# Altium schematic symbol library PROBOT_Schema_Library.SchLib: 13 symbols
Pins are listed as number, name and electrical type; pins without a type are passive.

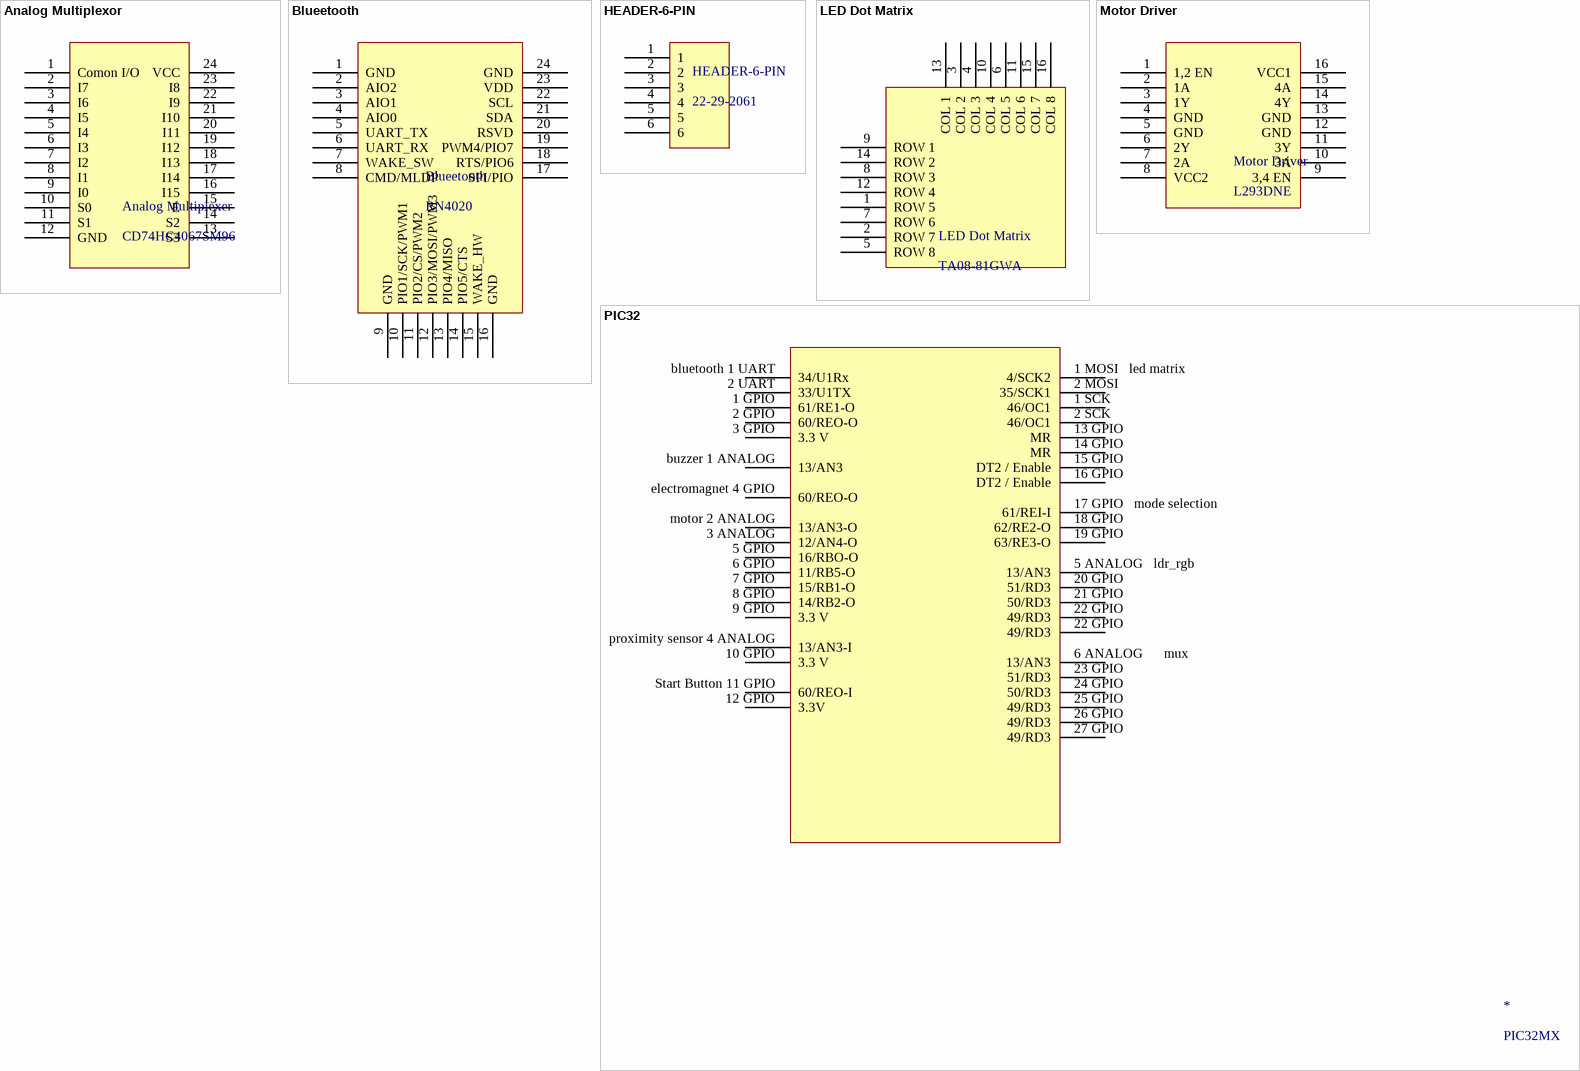
[diagram p0: symbols Analog Multiplexor to PIC32]

## Analog Multiplexor
designator Analog Multiplexer, comment CD74HC4067SM96
Farnell Reference: 1601157
pins: 1 Comon I/O, 2 I7, 3 I6, 4 I5, 5 I4, 6 I3, 7 I2, 8 I1, 9 I0, 10 S0, 11 S1, 12 GND, 13 S3, 14 S2, 15 E, 16 I15, 17 I14, 18 I13, 19 I12, 20 I11, 21 I10, 22 I9, 23 I8, 24 VCC

## Blueetooth
designator Blueetooth, comment RN4020
Farnell Reference: 2442930
pins: 1 GND, 2 AIO2, 3 AIO1, 4 AIO0, 5 UART_TX, 6 UART_RX, 7 WAKE_SW, 8 CMD/MLDP, 9 GND, 10 PIO1/SCK/PWM1, 11 PIO2/CS/PWM2, 12 PIO3/MOSI/PWM3, 13 PIO4/MISO, 14 PIO5/CTS, 15 WAKE_HW, 16 GND, 17 SPI/PIO, 18 RTS/PIO6, 19 PWM4/PIO7, 20 RSVD, 21 SDA, 22 SCL, 23 VDD, 24 GND

## HEADER-6-PIN
designator HEADER-6-PIN, comment 22-29-2061
pins: 1, 2, 3, 4, 5, 6

## LED Dot Matrix
designator LED Dot Matrix, comment TA08-81GWA
Farnell Reference: 2290396
pins: 1 ROW 5, 2 ROW 7, 3 COL 2, 4 COL 3, 5 ROW 8, 6 COL 5, 7 ROW 6, 8 ROW 3, 9 ROW 1, 10 COL 4, 11 COL 6, 12 ROW 4, 13 COL 1, 14 ROW 2, 15 COL 7, 16 COL 8

## Motor Driver
designator Motor Driver, comment L293DNE
Farnell Reference: 1470423
pins: 1 1,2 EN, 2 1A, 3 1Y, 4 GND, 5 GND, 6 2Y, 7 2A, 8 VCC2, 9 3,4 EN, 10 3A, 11 3Y, 12 GND, 13 GND, 14 4Y, 15 4A, 16 VCC1

## PIC32
designator *, comment PIC32MX
pins: 1 GPIO 61/RE1-O, 1 MOSI   led matrix 4/SCK2, 1 SCK 46/OC1, 2 GPIO 60/REO-O, 2 MOSI 35/SCK1, 2 SCK 46/OC1, 2 UART 33/U1TX, 3 ANALOG 12/AN4-O, 3 GPIO 3.3 V, 5 ANALOG   ldr_rgb 13/AN3, 5 GPIO 16/RBO-O, 6 ANALOG      mux 13/AN3, 6 GPIO 11/RB5-O, 7 GPIO 15/RB1-O, 8 GPIO 14/RB2-O, 9 GPIO 3.3 V, 10 GPIO 3.3 V, 12 GPIO 3.3V, 13 GPIO MR, 14 GPIO MR, 15 GPIO DT2 / Enable, 16 GPIO DT2 / Enable, 17 GPIO   mode selection 61/REI-I, 18 GPIO 62/RE2-O, 19 GPIO 63/RE3-O, 20 GPIO 51/RD3, 21 GPIO 50/RD3, 22 GPIO 49/RD3, 22 GPIO 49/RD3, 23 GPIO 51/RD3, 24 GPIO 50/RD3, 25 GPIO 49/RD3, 26 GPIO 49/RD3, 27 GPIO 49/RD3,  buzzer 1 ANALOG 13/AN3, bluetooth 1 UART 34/U1Rx, electromagnet 4 GPIO 60/REO-O, motor 2 ANALOG 13/AN3-O, proximity sensor 4 ANALOG 13/AN3-I, Start Button 11 GPIO 60/REO-I

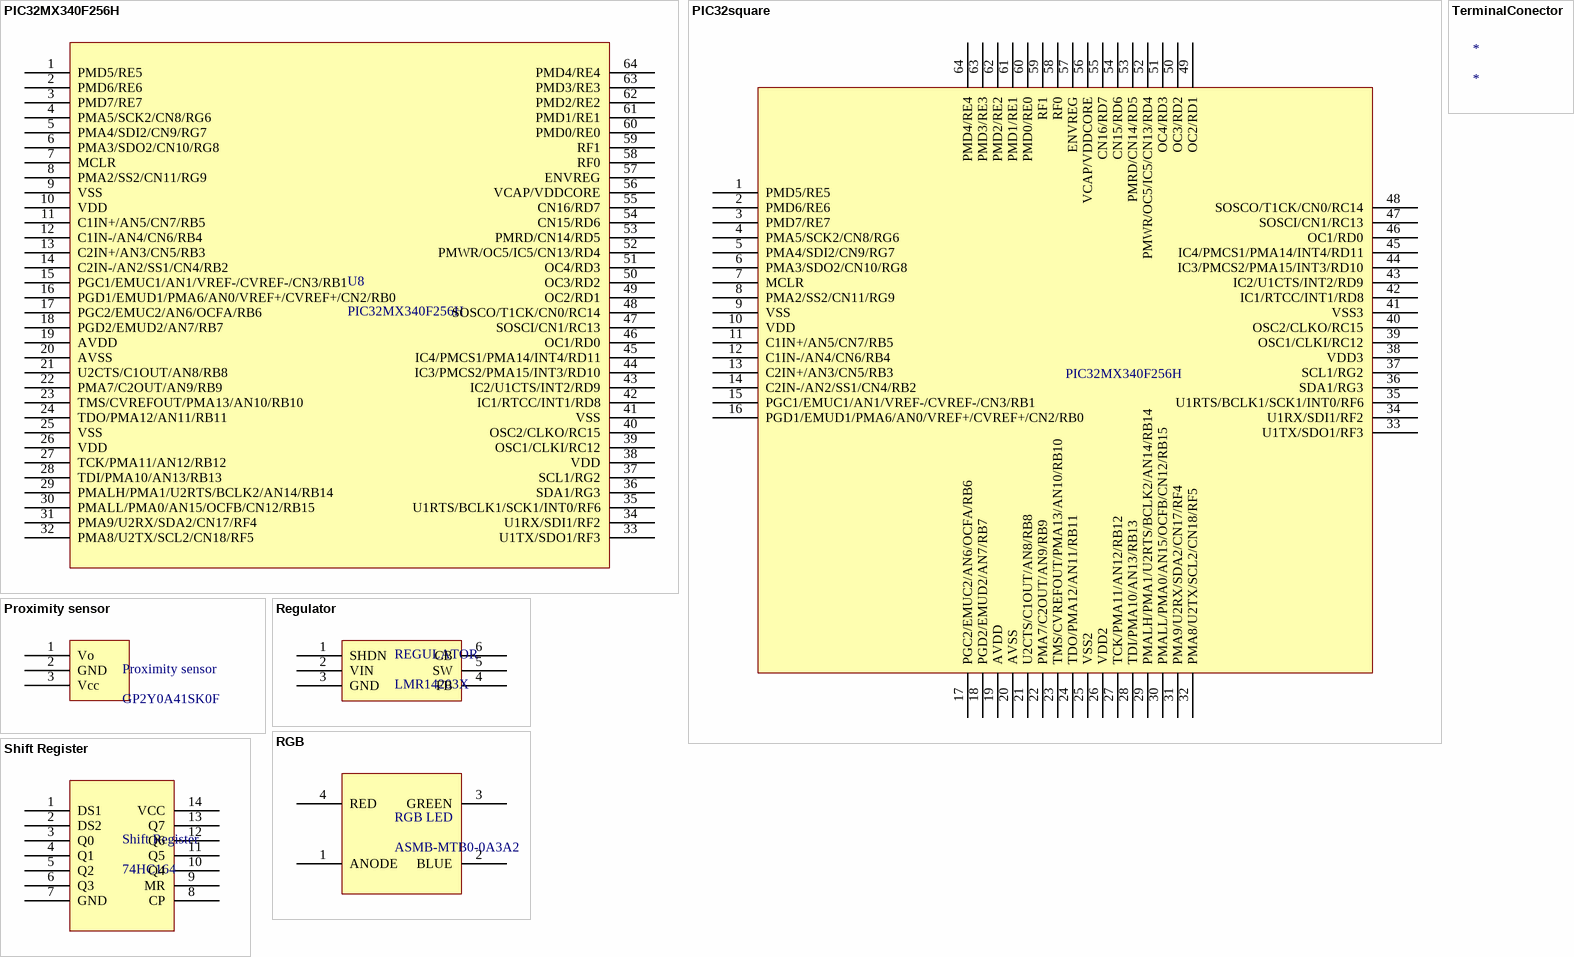
[diagram p1: symbols PIC32MX340F256H to TerminalConector]

## PIC32MX340F256H
designator U8
pins: 1 PMD5/RE5, 2 PMD6/RE6, 3 PMD7/RE7, 4 PMA5/SCK2/CN8/RG6, 5 PMA4/SDI2/CN9/RG7, 6 PMA3/SDO2/CN10/RG8, 7 MCLR, 8 PMA2/SS2/CN11/RG9, 9 VSS, 10 VDD, 11 C1IN+/AN5/CN7/RB5, 12 C1IN-/AN4/CN6/RB4, 13 C2IN+/AN3/CN5/RB3, 14 C2IN-/AN2/SS1/CN4/RB2, 15 PGC1/EMUC1/AN1/VREF-/CVREF-/CN3/RB1, 16 PGD1/EMUD1/PMA6/AN0/VREF+/CVREF+/CN2/RB0, 17 PGC2/EMUC2/AN6/OCFA/RB6, 18 PGD2/EMUD2/AN7/RB7, 19 AVDD, 20 AVSS, 21 U2CTS/C1OUT/AN8/RB8, 22 PMA7/C2OUT/AN9/RB9, 23 TMS/CVREFOUT/PMA13/AN10/RB10, 24 TDO/PMA12/AN11/RB11, 25 VSS, 26 VDD, 27 TCK/PMA11/AN12/RB12, 28 TDI/PMA10/AN13/RB13, 29 PMALH/PMA1/U2RTS/BCLK2/AN14/RB14, 30 PMALL/PMA0/AN15/OCFB/CN12/RB15, 31 PMA9/U2RX/SDA2/CN17/RF4, 32 PMA8/U2TX/SCL2/CN18/RF5, 33 U1TX/SDO1/RF3, 34 U1RX/SDI1/RF2, 35 U1RTS/BCLK1/SCK1/INT0/RF6, 36 SDA1/RG3, 37 SCL1/RG2, 38 VDD, 39 OSC1/CLKI/RC12, 40 OSC2/CLKO/RC15, 41 VSS, 42 IC1/RTCC/INT1/RD8, 43 IC2/U1CTS/INT2/RD9, 44 IC3/PMCS2/PMA15/INT3/RD10, 45 IC4/PMCS1/PMA14/INT4/RD11, 46 OC1/RD0, 47 SOSCI/CN1/RC13, 48 SOSCO/T1CK/CN0/RC14, 49 OC2/RD1, 50 OC3/RD2, 51 OC4/RD3, 52 PMWR/OC5/IC5/CN13/RD4, 53 PMRD/CN14/RD5, 54 CN15/RD6, 55 CN16/RD7, 56 VCAP/VDDCORE, 57 ENVREG, 58 RF0, 59 RF1, 60 PMD0/RE0, 61 PMD1/RE1, 62 PMD2/RE2, 63 PMD3/RE3, 64 PMD4/RE4

## PIC32square
designator PIC32Square, comment PIC32MX340F256H
footprint Model Name (Footprint not found)
pins: 1 PMD5/RE5, 2 PMD6/RE6, 3 PMD7/RE7, 4 PMA5/SCK2/CN8/RG6, 5 PMA4/SDI2/CN9/RG7, 6 PMA3/SDO2/CN10/RG8, 7 MCLR, 8 PMA2/SS2/CN11/RG9, 9 VSS, 10 VDD, 11 C1IN+/AN5/CN7/RB5, 12 C1IN-/AN4/CN6/RB4, 13 C2IN+/AN3/CN5/RB3, 14 C2IN-/AN2/SS1/CN4/RB2, 15 PGC1/EMUC1/AN1/VREF-/CVREF-/CN3/RB1, 16 PGD1/EMUD1/PMA6/AN0/VREF+/CVREF+/CN2/RB0, 17 PGC2/EMUC2/AN6/OCFA/RB6, 18 PGD2/EMUD2/AN7/RB7, 19 AVDD, 20 AVSS, 21 U2CTS/C1OUT/AN8/RB8, 22 PMA7/C2OUT/AN9/RB9, 23 TMS/CVREFOUT/PMA13/AN10/RB10, 24 TDO/PMA12/AN11/RB11, 25 VSS2, 26 VDD2, 27 TCK/PMA11/AN12/RB12, 28 TDI/PMA10/AN13/RB13, 29 PMALH/PMA1/U2RTS/BCLK2/AN14/RB14, 30 PMALL/PMA0/AN15/OCFB/CN12/RB15, 31 PMA9/U2RX/SDA2/CN17/RF4, 32 PMA8/U2TX/SCL2/CN18/RF5, 33 U1TX/SDO1/RF3, 34 U1RX/SDI1/RF2, 35 U1RTS/BCLK1/SCK1/INT0/RF6, 36 SDA1/RG3, 37 SCL1/RG2, 38 VDD3, 39 OSC1/CLKI/RC12, 40 OSC2/CLKO/RC15, 41 VSS3, 42 IC1/RTCC/INT1/RD8, 43 IC2/U1CTS/INT2/RD9, 44 IC3/PMCS2/PMA15/INT3/RD10, 45 IC4/PMCS1/PMA14/INT4/RD11, 46 OC1/RD0, 47 SOSCI/CN1/RC13, 48 SOSCO/T1CK/CN0/RC14, 49 OC2/RD1, 50 OC3/RD2, 51 OC4/RD3, 52 PMWR/OC5/IC5/CN13/RD4, 53 PMRD/CN14/RD5, 54 CN15/RD6, 55 CN16/RD7, 56 VCAP/VDDCORE, 57 ENVREG, 58 RF0, 59 RF1, 60 PMD0/RE0, 61 PMD1/RE1, 62 PMD2/RE2, 63 PMD3/RE3, 64 PMD4/RE4

## Proximity sensor
designator Proximity sensor, comment GP2Y0A41SK0F
Farnell Reference: 1618431
pins: 1 Vo, 2 GND, 3 Vcc

## Regulator
designator REGULATOR, comment LMR14203X
pins: 1 SHDN, 2 VIN, 3 GND, 4 FB, 5 SW, 6 CB

## RGB
designator RGB LED, comment ASMB-MTB0-0A3A2
Farnell Reference: 2401105
pins: 1 ANODE, 2 BLUE, 3 GREEN, 4 RED

## Shift Register
designator Shift Register, comment 74HC164
Farnell Reference: 1103161
pins: 1 DS1, 2 DS2, 3 Q0, 4 Q1, 5 Q2, 6 Q3, 7 GND, 8 CP, 9 MR, 10 Q4, 11 Q5, 12 Q6, 13 Q7, 14 VCC

## TerminalConector
designator *